# EAGLE library part IC555 (library chuong)
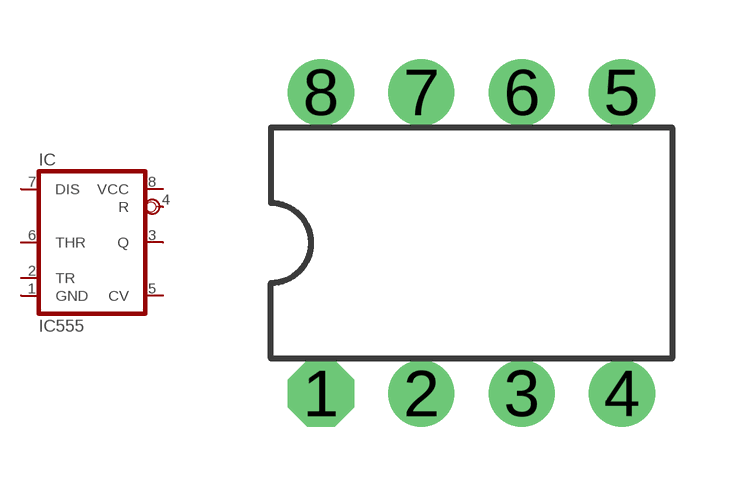
[diagram p24: symbol with the pads of DIL-8; footprint DIL-8]

Designator prefix IC

## IC555  [DIL-8]
1  GND  pwr
2  TR  in
3  Q  out
4  R  in
5  CV  in
6  THR  in
7  DIS  in
8  VCC  pwr

## Footprint DIL-8 (pad centres in mm)
drill 0.61 pad 1.676 octagon: 1 -3.81,-3.81
drill 0.61 pad 1.676 round: 2 -1.27,-3.81; 3 1.27,-3.81; 4 3.81,-3.81; 5 3.81,3.81; 6 1.27,3.81; 7 -1.27,3.81; 8 -3.81,3.81